# Altium schematic symbol library SCH - POWER - LINEAR VREG - TI LP3981IMM-2.5.SchLib: 1 symbol
Pins are listed as number, name and electrical type; pins without a type are passive.

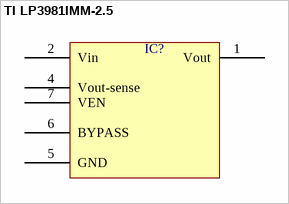
[diagram p0: symbol TI LP3981IMM-2.5]

## TI LP3981IMM-2.5
designator IC?  (value not drawn)
pins: 1 Vout, 2 Vin, 4 Vout-sense, 5 GND, 6 BYPASS, 7 VEN